# Altium footprint library Misc.PcbLib: 150 footprints (part 1 of 10)
Each footprint in its own frame and in the unit in brackets; x right, y up, seen from the top. Pads: shape width x height; smd on the part's side, far side on the other; paste and mask are expansions set on the pad; w line width, h text height; cw(c..) or ccw(c..) is an arc to the next point about the centre after c.
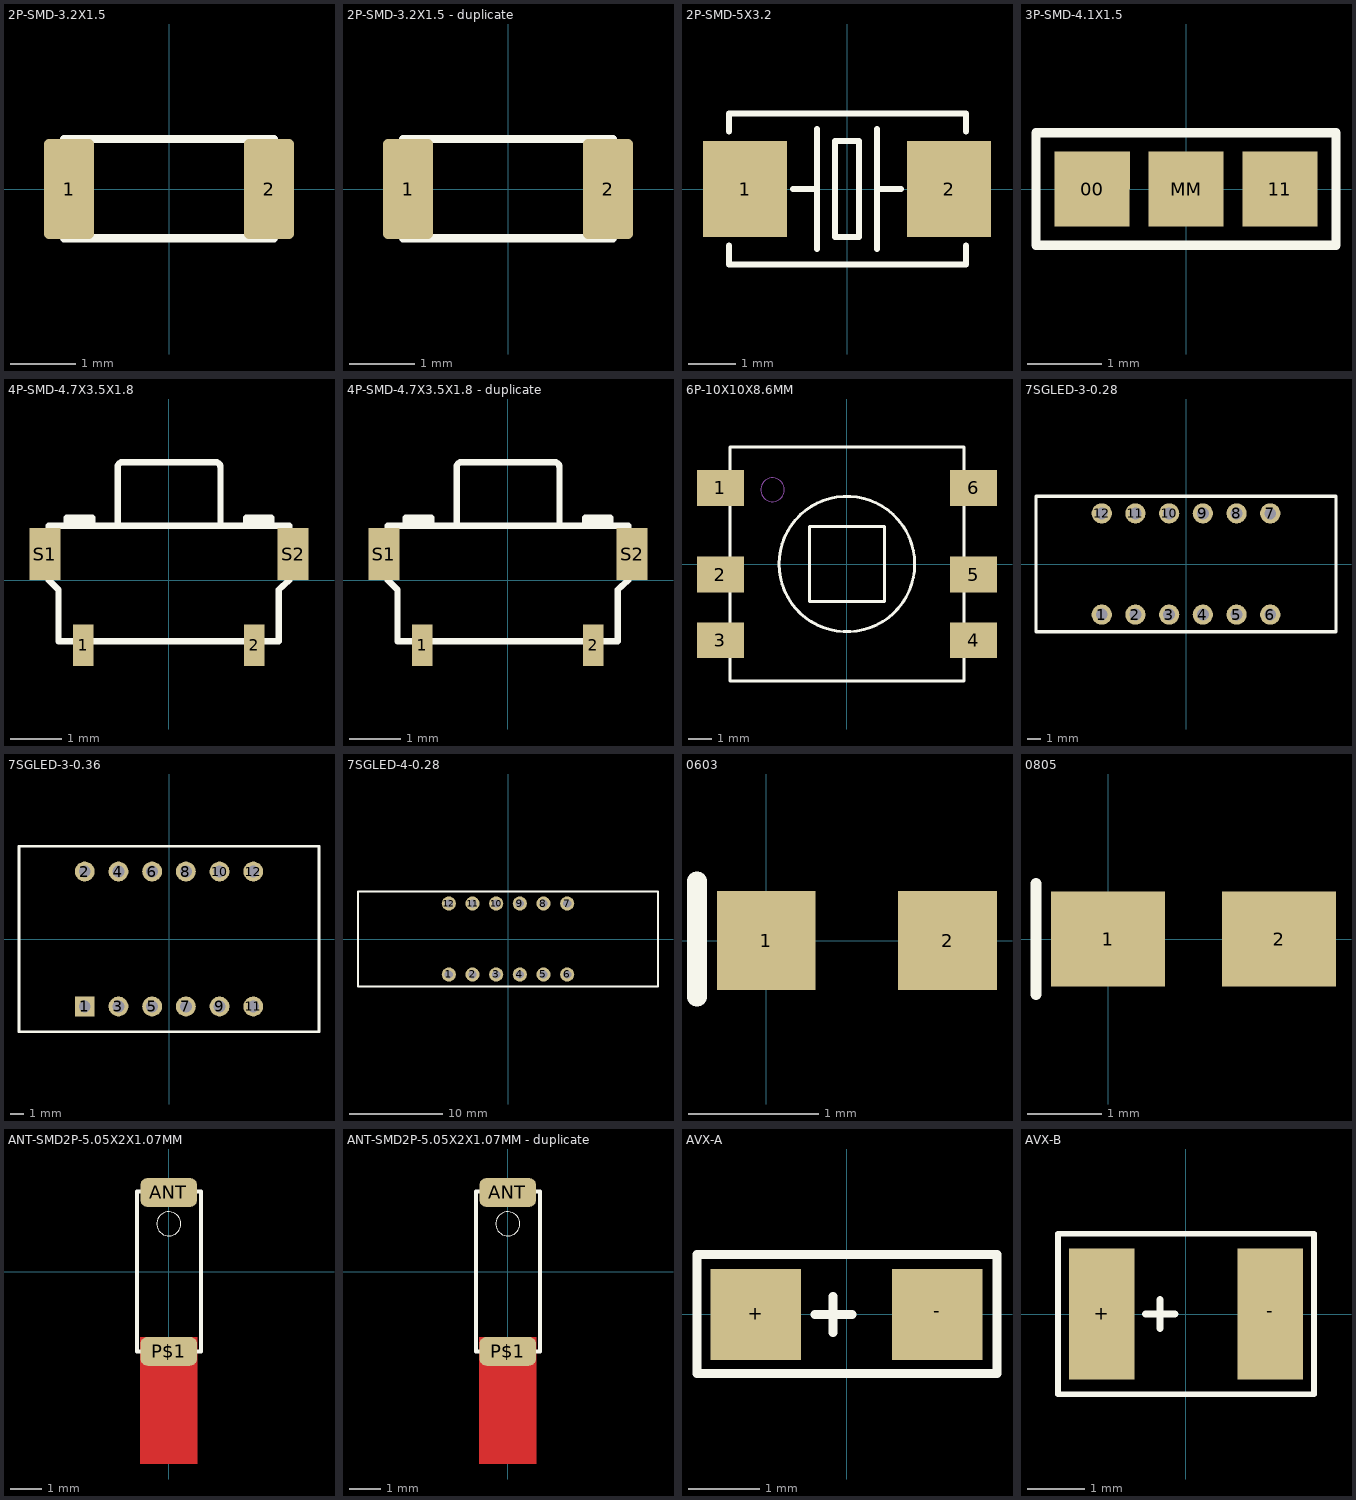
[diagram p0: the footprints below, top view; thin cyan lines are the x and y axes]

## 2P-SMD-3.2X1.5 [mil] "2P-SMD-3.2X1.5"
pads (2):
  rrect20% 30x60 smd: 1(-60,0) 2(60,0)
Top Overlay:
  lines w5: -62.99,-29.53 -62.99,30 63,30 63,-29.53 -62.99,-29.53
Mechanical 2:
Mechanical 4:

## 2P-SMD-3.2X1.5 - duplicate [mil] "2P-SMD-3.2X1.5"
pads (2):
  rrect20% 30x60 smd: 1(-60,0) 2(60,0)
Top Overlay:
  lines w5: -62.99,-29.53 -62.99,30 63,30 63,-29.53 -62.99,-29.53
Mechanical 2:
Mechanical 4:

## 2P-SMD-5X3.2 [mil] "2P-SMD-5X3.2"
pads (2):
  rect 70x80 smd: 1(-85,0) 2(85,0)
Top Overlay:
  lines w5: -98.43,-47.24 -98.43,-62.99 99,-62.99 99,-47.24 ; -98.43,48 -98.43,63 99,63 99,48 ; -45,0 -25,0 ; -25,-50 -25,0 ; -25,50 -25,0 ; 25,-50 25,0 ; 25,50 25,0 ; 45,0 25,0 ; -10,-40 -10,40 10,40 10,-40 -10,-40
Mechanical 2:
Mechanical 4:
Mechanical 16:
  rectangle: -100,-40 -50,40
  rectangle: 50,-40 100,40
Mechanical 23:
  text ">name" at -30,-5 h18.6

## 3P-SMD-4.1X1.5 [mil] "3P-SMD-4.1X1.5"
pads (3):
  rect 40x40 smd: 00(-50,0) 11(50,0) MM(0,0)
Top Overlay:
  lines w5: -80,-30 80,-30 80,30 -80,30 -80,-30
Mechanical 2:
Mechanical 4:
Mechanical 23:
  text ">name" at -25,0 h18.6

## 4P-SMD-4.7X3.5X1.8 [mil] "4P-SMD-4.7X3.5X1.8"
pads (4):
  rect 16x32 smd: 1(-65.94,-50.28) 2(66,-50.28)
  rect 24x40 smd: S1(-95.47,20) S2(96,20)
Top Overlay:
  lines w5: -76.77,46 -61.02,46 ; 62,46 77,46 ; -78.74,42 -78.74,48 -59.06,48 -59.06,42 ; -78.74,42 -92.52,42 -92.52,0 -85,-7.52 -85,-47.24 85,-47.24 85,-7.52 93,0 93,42 79,42 ; -78.74,42 -59.06,42 ; -59.06,42 -39.37,42 ; -39.37,42 -39.37,87 cw(c-35.4,87.03) -35.43,91 36,91 cw(c36,87) 40,87 40,42 ; -39.37,42 40,42 ; 40,42 60,42 ; 60,42 60,48 79,48 79,42 ; 60,42 79,42
Mechanical 2:
Mechanical 4:

## 4P-SMD-4.7X3.5X1.8 - duplicate [mil] "4P-SMD-4.7X3.5X1.8"
pads (4):
  rect 16x32 smd: 1(-65.94,-50.28) 2(66,-50.28)
  rect 24x40 smd: S1(-95.47,20) S2(96,20)
Top Overlay:
  lines w5: -76.77,46 -61.02,46 ; 62,46 77,46 ; -78.74,42 -59.06,42 ; -78.74,42 -92.52,42 -92.52,0 -85,-7.52 -85,-47.24 85,-47.24 85,-7.52 93,0 93,42 79,42 ; -78.74,42 -78.74,48 -59.06,48 -59.06,42 ; -59.06,42 -39.37,42 ; -39.37,42 40,42 ; -39.37,42 -39.37,87 cw(c-35.4,87.03) -35.43,91 36,91 cw(c36,87) 40,87 40,42 ; 40,42 60,42 ; 60,42 79,42 ; 60,42 60,48 79,48 79,42
Mechanical 2:
Mechanical 4:

## 6P-10X10X8.6MM [mil] "6P-10X10X8.6MM"
pads (6):
  rect 79x60 smd: 1(-212.6,128) 2(-212.6,-17.72) 3(-212.6,-127.95) 4(213,-127.95) 5(213,-17.72) 6(213,128)
Top Overlay:
  circle w5: c0,0 r114
  lines w5: -196.85,-196.85 -196.85,197 197,197 197,-196.85 -196.85,-196.85 ; -62.99,-62.99 -62.99,63 63,63 63,-62.99 -62.99,-62.99
Mechanical 2:
Mechanical 4:
  circle w0: c-125,125 r20

## 7SGLED-3-0.28 [mil]
pads (12):
  round 60 hole 35: 1(-250,-150) 2(-150,-150) 3(-50,-150) 4(50,-150) 5(150,-150) 6(250,-150) 7(250,150) 8(150,150) 9(50,150) 10(-50,150) 11(-150,150) 12(-250,150)
Top Overlay:
  lines w10: -445,-200.79 -445,200.79 445,200.79 445,-200.79 -445,-200.79

## 7SGLED-3-0.36 [mm] "22.5x14x7.2MM"
pads (12):
  rect 1.5x1.5 hole 0.9: 1(-6.35,-5.08)
  round 1.5 hole 0.9: 2(-6.35,5.08) 3(-3.81,-5.08) 4(-3.81,5.08) 5(-1.27,-5.08) 6(-1.27,5.08) 7(1.27,-5.08) 8(1.27,5.08) 9(3.81,-5.08) 10(3.81,5.08) 11(6.35,-5.08) 12(6.35,5.08)
Top Overlay:
  lines w0.2: -11.303,-6.985 -11.303,6.985 11.303,6.985 11.303,-6.985 -11.303,-6.985

## 7SGLED-4-0.28 [mil]
pads (12):
  round 60 hole 35: 1(-250,-150) 2(-150,-150) 3(-50,-150) 4(50,-150) 5(150,-150) 6(250,-150) 7(250,150) 8(150,150) 9(50,150) 10(-50,150) 11(-150,150) 12(-250,150)
Top Overlay:
  lines w10: -633.86,-200.79 633.86,-200.79 633.86,200.79 -633.86,200.79 -633.86,-200.79

## 0603 [mil]
height 200
pads (2):
  rect 30x30 smd: 1(0,0) 2(55,0)
Top Overlay:
  lines w6: -21,-17 -21,18
3D body: height 43.31, standoff 0, extent -5,-15 60,15

## 0805 [mil]
pads (2):
  rect 60x50 smd: 1(0,0) 2(90,0)
Top Overlay:
  lines w6: -38,-29 -38,29

## ANT-SMD2P-5.05X2X1.07MM [mil] "ANT-SMD2P-5.05X2X1.07MM"
pads (2):
  rrect50% 71x36 smd: ANT(0,99) P$1(0,-98.94)
Top Layer:
  rectangle: -35.59,-239.37 36,-81.1
Top Overlay:
  circle w0: c0,60 r15
  lines w5: -39.37,-99.41 -39.37,100 40,100 40,-99.41 -39.37,-99.41
Mechanical 2:
Mechanical 4:

## ANT-SMD2P-5.05X2X1.07MM - duplicate [mil] "ANT-SMD2P-5.05X2X1.07MM"
pads (2):
  rrect50% 71x36 smd: ANT(0,99) P$1(0,-98.94)
Top Layer:
  rectangle: -35.59,-239.37 36,-81.1
Top Overlay:
  circle w0: c0,60 r15
  lines w5: -39.37,-99.41 -39.37,100 40,100 40,-99.41 -39.37,-99.41
Mechanical 2:
Mechanical 4:

## AVX-A [mil] "AVX-A"
pads (2):
  rect 50x50 smd: +(-50,0) -(50,0)
Top Overlay:
  lines w5: -17.5,0 3,0 ; -7.5,-10 -7.5,10 ; -82.5,-32.5 83,-32.5 83,33 -82.5,33 -82.5,-32.5
Mechanical 2:
Mechanical 4:

## AVX-B [mil] "AVX-B"
pads (2):
  rect 45x90 smd: +(-57.5,0) -(58,0)
Top Overlay:
  lines w4: -87.5,-55 88,-55 88,55 -87.5,55 -87.5,-55
  lines w5: -27.5,0 -7.5,0 ; -17.5,-10 -17.5,10
Mechanical 2:
Mechanical 4:
Mechanical 23:
  text ">NAME" at -25,0 h24.8